# EAGLE library part AY-3-8910 (library general-instrument)
Programmable sound generator
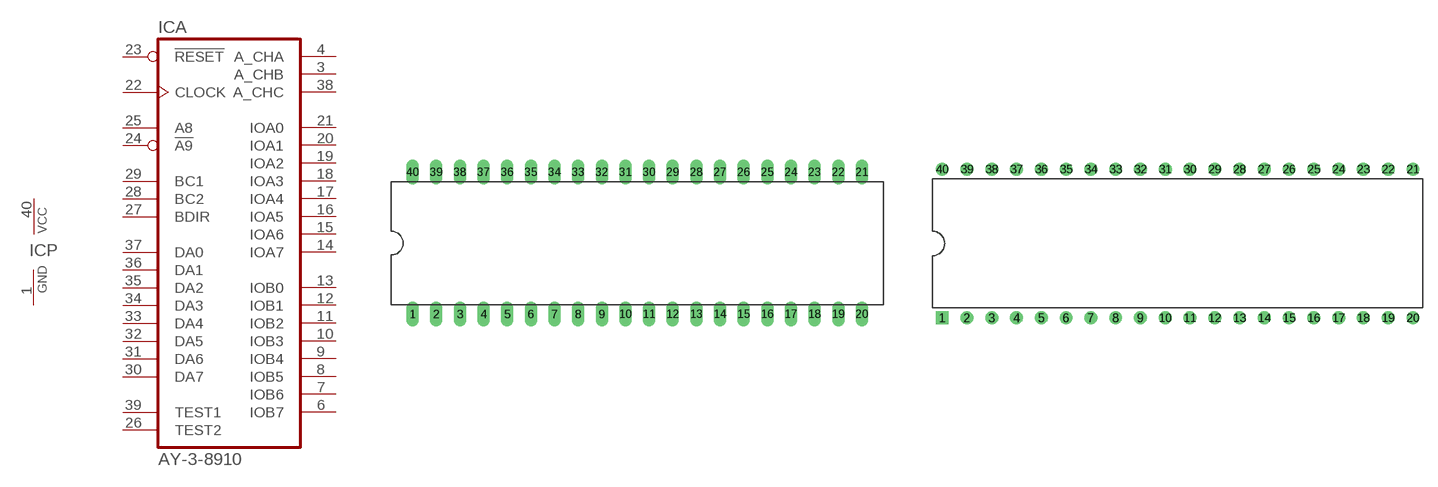
[diagram p1: symbol with the pads of DIL40; footprints DIL40, DIL40-RP]

Designator prefix IC; gates A=AY-3-8910 P=PWRN

## AY-3-8910  [DIL40]
1  P:GND  pwr
3  A:A_CHB  out
4  A:A_CHA  out
6  A:IOB7
7  A:IOB6
8  A:IOB5
9  A:IOB4
10  A:IOB3
11  A:IOB2
12  A:IOB1
13  A:IOB0
14  A:IOA7
15  A:IOA6
16  A:IOA5
17  A:IOA4
18  A:IOA3
19  A:IOA2
20  A:IOA1
21  A:IOA0
22  A:CLOCK  in
23  A:!RESET  in
24  A:!A9  in
25  A:A8  in
26  A:TEST2  in
27  A:BDIR  in
28  A:BC2  in
29  A:BC1  in
30  A:DA7
31  A:DA6
32  A:DA5
33  A:DA4
34  A:DA3
35  A:DA2
36  A:DA1
37  A:DA0
38  A:A_CHC  out
39  A:TEST1  in
40  P:VCC  pwr

## AY-3-8910-RP  [DIL40-RP]
Pads as for DIL40

## Footprint DIL40 (pad centres in mm)
Dual In Line
drill 0.813 long: 1 -24.13,-7.62; 2 -21.59,-7.62; 3 -19.05,-7.62; 4 -16.51,-7.62; 5 -13.97,-7.62; 6 -11.43,-7.62; 7 -8.89,-7.62; 8 -6.35,-7.62; 9 -3.81,-7.62; 10 -1.27,-7.62; 11 1.27,-7.62; 12 3.81,-7.62; 13 6.35,-7.62; 14 8.89,-7.62; 15 11.43,-7.62; 16 13.97,-7.62; 17 16.51,-7.62; 18 19.05,-7.62; 19 21.59,-7.62; 20 24.13,-7.62; 21 24.13,7.62; 22 21.59,7.62; 23 19.05,7.62; 24 16.51,7.62; 25 13.97,7.62; 26 11.43,7.62; 27 8.89,7.62; 28 6.35,7.62; 29 3.81,7.62; 30 1.27,7.62; 31 -1.27,7.62; 32 -3.81,7.62; 33 -6.35,7.62; 34 -8.89,7.62; 35 -11.43,7.62; 36 -13.97,7.62; 37 -16.51,7.62; 38 -19.05,7.62; 39 -21.59,7.62; 40 -24.13,7.62

## Footprint DIL40-RP (pad centres in mm)
Dual In Line
drill 0.813 square: 1 -24.13,-7.62
drill 0.813: 2 -21.59,-7.62; 3 -19.05,-7.62; 4 -16.51,-7.62; 5 -13.97,-7.62; 6 -11.43,-7.62; 7 -8.89,-7.62; 8 -6.35,-7.62; 9 -3.81,-7.62; 10 -1.27,-7.62; 11 1.27,-7.62; 12 3.81,-7.62; 13 6.35,-7.62; 14 8.89,-7.62; 15 11.43,-7.62; 16 13.97,-7.62; 17 16.51,-7.62; 18 19.05,-7.62; 19 21.59,-7.62; 20 24.13,-7.62; 21 24.13,7.62; 22 21.59,7.62; 23 19.05,7.62; 24 16.51,7.62; 25 13.97,7.62; 26 11.43,7.62; 27 8.89,7.62; 28 6.35,7.62; 29 3.81,7.62; 30 1.27,7.62; 31 -1.27,7.62; 32 -3.81,7.62; 33 -6.35,7.62; 34 -8.89,7.62; 35 -11.43,7.62; 36 -13.97,7.62; 37 -16.51,7.62; 38 -19.05,7.62; 39 -21.59,7.62; 40 -24.13,7.62